# EAGLE library part EG4208A (library custom_library)
SLIDE, 200mA, 30VDC 4PDT, On-On Through Hole, Right Angle Source: Datasheet <https://configured-product-images.s3.amazonaws.com/2D/specs/EG4208A.pdf>
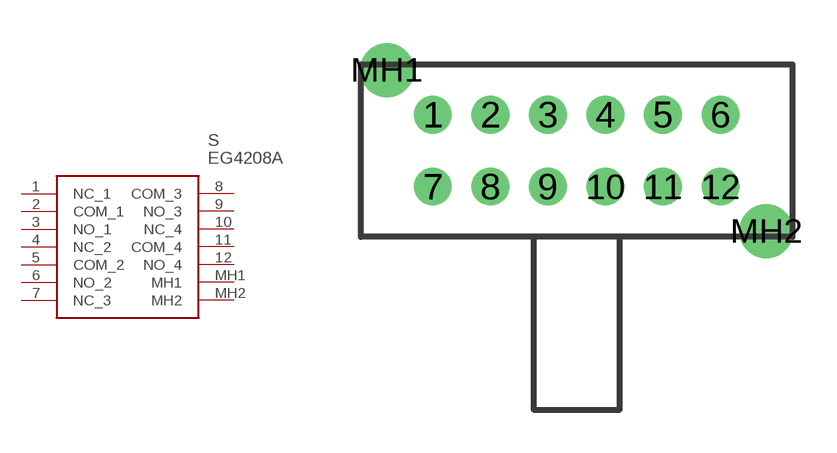
[diagram p13: symbol with the pads of EG4208A; footprint EG4208A]

Designator prefix S

## EG4208A (DESCRIPTION: SLIDE, 200mA, 30VDC 4PDT, On-On Through Hole, Right Angle; HEIGHT: 5mm; MANUFACTURER_NAME: E-Switch; MANUFACTURER_PART_NUMBER: EG4208A)  [EG4208A]
1  NC_1
2  COM_1
3  NO_1
4  NC_2
5  COM_2
6  NO_2
7  NC_3
8  COM_3
9  NO_3
10  NC_4
11  COM_4
12  NO_4
MH1  MH1
MH2  MH2

## Footprint EG4208A (pad centres in mm)
EG4208A-1
drill 0.8 pad 1.3: 1 0,0; 2 2,0; 3 4,0; 4 6,0; 5 8,0; 6 10,0; 7 0,-2.5; 8 2,-2.5; 9 4,-2.5; 10 6,-2.5; 11 8,-2.5; 12 10,-2.5
drill 1.25 pad 1.875: MH1 -1.6,1.55; MH2 11.6,-4.05